# Altium integrated library Capacitor - Aluminium TH.IntLib: 4591 symbols (part 62 of 68)
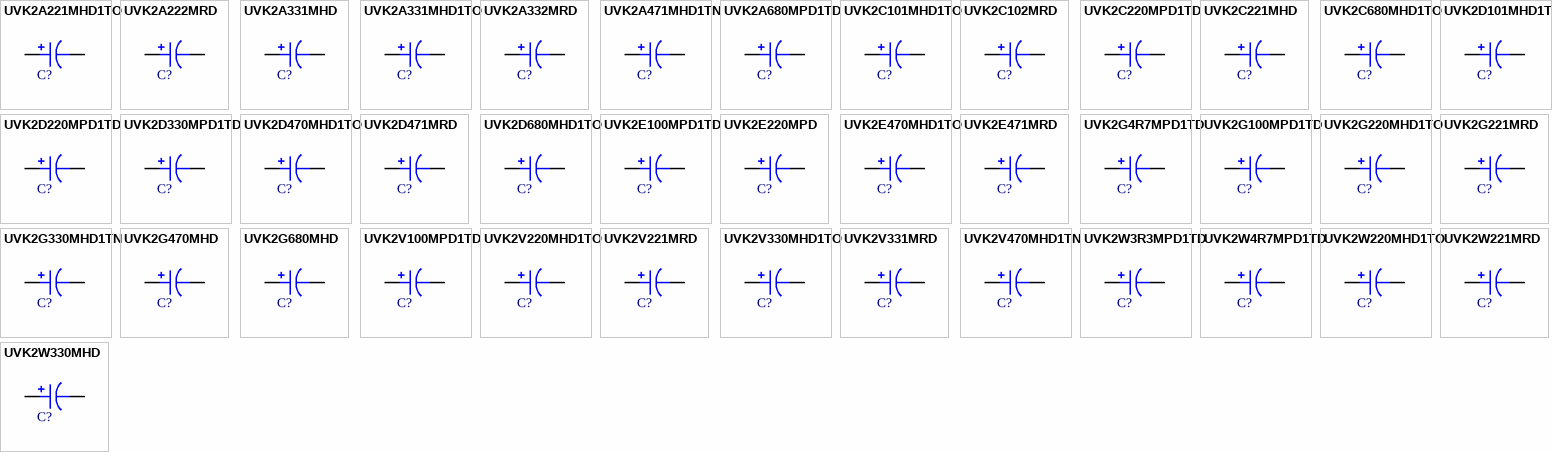
[diagram p175: symbols UVK2A221MHD1TO to UVK2W330MHD]

## UVK2C221MHD
designator C?, comment 220uF  (value not drawn)
CAP ALUM 220UF 20% 160V RADIAL; Part Number: UVK2C221MHD; Manufacturer: Nichicon; TemperatureRange: -40C ~ 85C; Type: Polar; Ripple Current: 580mA; Value: 220uF; PartId: 27126; Supplier 1: Digi-Key; Supplier Part Number 1: 493-12422-ND; ComponentLink1Description: Datasheet; ComponentLink1URL: http://nichicon-us.com/english/products/pdfs/e-uvk.pdf; ComponentLink2Description: Digi-Key Listing; ComponentLink2URL: https://www.digikey.com/product-detail/en/nichicon/UVK2C221MHD/493-12422-ND/2539468; Tolerance: 20%; Voltage: 160V; Price: 1.76; Device Package: Radial, Can, 16mm
footprint CAP AL TH D16 L7.5 H33.5
pins: 1, 2

## UVK2C680MHD1TO
designator C?, comment 68uF  (value not drawn)
CAP ALUM 68UF 20% 160V RADIAL; Part Number: UVK2C680MHD1TO; Manufacturer: Nichicon; TemperatureRange: -40C ~ 85C; Type: Polar; Ripple Current: 350mA; Value: 68uF; PartId: 23259; Supplier 1: Digi-Key; Supplier Part Number 1: 493-12622-1-ND; ComponentLink1Description: Datasheet; ComponentLink1URL: http://nichicon-us.com/english/products/pdfs/e-uvk.pdf; ComponentLink2Description: Digi-Key Listing; ComponentLink2URL: https://www.digikey.com/product-detail/en/nichicon/UVK2C680MHD1TO/493-12622-1-ND/4328703; Tolerance: 20%; Voltage: 160V; Price: 0.72; Device Package: Radial, Can, 12.5mm
footprint CAP AL TH D12.5 L5 H22
pins: 1, 2

## UVK2D101MHD1TN
designator C?, comment 100uF  (value not drawn)
CAP ALUM 100UF 20% 200V RADIAL; Part Number: UVK2D101MHD1TN; Manufacturer: Nichicon; TemperatureRange: -40C ~ 85C; Type: Polar; Ripple Current: 450mA; Value: 100uF; PartId: 26775; Supplier 1: Digi-Key; Supplier Part Number 1: 493-7457-2-ND; ComponentLink1Description: Datasheet; ComponentLink1URL: http://nichicon-us.com/english/products/pdfs/e-uvk.pdf; ComponentLink2Description: Digi-Key Listing; ComponentLink2URL: https://www.digikey.com/product-detail/en/nichicon/UVK2D101MHD1TN/493-7457-2-ND/3768856; Tolerance: 20%; Voltage: 200V; Price: 0.6236; Device Package: Radial, Can, 16mm
footprint CAP AL TH D16 L7.5 H27
pins: 1, 2

## UVK2D220MPD1TD
designator C?, comment 22uF  (value not drawn)
CAP ALUM 22UF 20% 200V RADIAL; Part Number: UVK2D220MPD1TD; Manufacturer: Nichicon; TemperatureRange: -40C ~ 85C; Type: Polar; Ripple Current: 150mA; Value: 22uF; PartId: 25036; Supplier 1: Digi-Key; Supplier Part Number 1: 493-12626-3-ND; ComponentLink1Description: Datasheet; ComponentLink1URL: http://nichicon-us.com/english/products/pdfs/e-uvk.pdf; ComponentLink2Description: Digi-Key Listing; ComponentLink2URL: https://www.digikey.com/product-detail/en/nichicon/UVK2D220MPD1TD/493-12626-3-ND/4328827; Tolerance: 20%; Voltage: 200V; Price: 0.184; Device Package: Radial, Can, 10mm
footprint CAP AL TH D10 L5 H17.5
pins: 1, 2

## UVK2D330MPD1TD
designator C?, comment 33uF  (value not drawn)
CAP ALUM 33UF 20% 200V RADIAL; Part Number: UVK2D330MPD1TD; Manufacturer: Nichicon; TemperatureRange: -40C ~ 85C; Type: Polar; Ripple Current: 200mA; Value: 33uF; PartId: 25771; Supplier 1: Digi-Key; Supplier Part Number 1: 493-7458-2-ND; ComponentLink1Description: Datasheet; ComponentLink1URL: http://nichicon-us.com/english/products/pdfs/e-uvk.pdf; ComponentLink2Description: Digi-Key Listing; ComponentLink2URL: https://www.digikey.com/product-detail/en/nichicon/UVK2D330MPD1TD/493-7458-2-ND/3768858; Tolerance: 20%; Voltage: 200V; Price: 0.2296; Device Package: Radial, Can, 10mm
footprint CAP AL TH D10 L5 H22
pins: 1, 2

## UVK2D470MHD1TO
designator C?, comment 47uF  (value not drawn)
CAP ALUM 47UF 20% 200V RADIAL; Part Number: UVK2D470MHD1TO; Manufacturer: Nichicon; TemperatureRange: -40C ~ 85C; Type: Polar; Ripple Current: 270mA; Value: 47uF; PartId: 23263; Supplier 1: Digi-Key; Supplier Part Number 1: 493-12629-1-ND; ComponentLink1Description: Datasheet; ComponentLink1URL: http://nichicon-us.com/english/products/pdfs/e-uvk.pdf; ComponentLink2Description: Digi-Key Listing; ComponentLink2URL: https://www.digikey.com/product-detail/en/nichicon/UVK2D470MHD1TO/493-12629-1-ND/4328710; Tolerance: 20%; Voltage: 200V; Price: 0.74; Device Package: Radial, Can, 12.5mm
footprint CAP AL TH D12.5 L5 H22
pins: 1, 2

## UVK2D471MRD
designator C?, comment 470uF  (value not drawn)
CAP ALUM 470UF 20% 200V RADIAL; Part Number: UVK2D471MRD; Manufacturer: Nichicon; TemperatureRange: -40C ~ 85C; Type: Polar; Ripple Current: 1.3A; Value: 470uF; PartId: 27578; Supplier 1: Digi-Key; Supplier Part Number 1: 493-12425-ND; ComponentLink1Description: Datasheet; ComponentLink1URL: http://nichicon-us.com/english/products/pdfs/e-uvk.pdf; ComponentLink2Description: Digi-Key Listing; ComponentLink2URL: https://www.digikey.com/product-detail/en/nichicon/UVK2D471MRD/493-12425-ND/2539484; Tolerance: 20%; Voltage: 200V; Price: 4.13; Device Package: Radial, Can, 22mm
footprint CAP AL TH D22 L10 H43
pins: 1, 2

## UVK2D680MHD1TO
designator C?, comment 68uF  (value not drawn)
CAP ALUM 68UF 20% 200V RADIAL; Part Number: UVK2D680MHD1TO; Manufacturer: Nichicon; TemperatureRange: -40C ~ 85C; Type: Polar; Ripple Current: 350mA; Value: 68uF; PartId: 24095; Supplier 1: Digi-Key; Supplier Part Number 1: 493-12631-1-ND; ComponentLink1Description: Datasheet; ComponentLink1URL: http://nichicon-us.com/english/products/pdfs/e-uvk.pdf; ComponentLink2Description: Digi-Key Listing; ComponentLink2URL: https://www.digikey.com/product-detail/en/nichicon/UVK2D680MHD1TO/493-12631-1-ND/4328712; Tolerance: 20%; Voltage: 200V; Price: 1.28; Device Package: Radial, Can, 12.5mm
footprint CAP AL TH D12.5 L5 H27
pins: 1, 2

## UVK2E100MPD1TD
designator C?, comment 10uF  (value not drawn)
CAP ALUM 10UF 20% 250V RADIAL; Part Number: UVK2E100MPD1TD; Manufacturer: Nichicon; TemperatureRange: -40C ~ 85C; Type: Polar; Ripple Current: 100mA; Value: 10uF; PartId: 24586; Supplier 1: Digi-Key; Supplier Part Number 1: 493-12635-3-ND; ComponentLink1Description: Datasheet; ComponentLink1URL: http://nichicon-us.com/english/products/pdfs/e-uvk.pdf; ComponentLink2Description: Digi-Key Listing; ComponentLink2URL: https://www.digikey.com/product-detail/en/nichicon/UVK2E100MPD1TD/493-12635-3-ND/4328836; Tolerance: 20%; Voltage: 250V; Price: 0.169; Device Package: Radial, Can, 10mm
footprint CAP AL TH D10 L5 H14.5
pins: 1, 2

## UVK2E220MPD
designator C?, comment 22uF  (value not drawn)
CAP ALUM 22UF 20% 250V RADIAL; Part Number: UVK2E220MPD; Manufacturer: Nichicon; TemperatureRange: -40C ~ 85C; Type: Polar; Ripple Current: 150mA; Value: 22uF; PartId: 25883; Supplier 1: Digi-Key; Supplier Part Number 1: 493-6069-ND; ComponentLink1Description: Datasheet; ComponentLink1URL: http://nichicon-us.com/english/products/pdfs/e-uvk.pdf; ComponentLink2Description: Digi-Key Listing; ComponentLink2URL: https://www.digikey.com/product-detail/en/nichicon/UVK2E220MPD/493-6069-ND/2539492; Tolerance: 20%; Voltage: 250V; Price: 0.64; Device Package: Radial, Can, 10mm
footprint CAP AL TH D10 L5 H22
pins: 1, 2

## UVK2E470MHD1TO
designator C?, comment 47uF  (value not drawn)
CAP ALUM 47UF 20% 250V RADIAL; Part Number: UVK2E470MHD1TO; Manufacturer: Nichicon; TemperatureRange: -40C ~ 85C; Type: Polar; Ripple Current: 270mA; Value: 47uF; PartId: 23386; Supplier 1: Digi-Key; Supplier Part Number 1: 493-12640-1-ND; ComponentLink1Description: Datasheet; ComponentLink1URL: http://nichicon-us.com/english/products/pdfs/e-uvk.pdf; ComponentLink2Description: Digi-Key Listing; ComponentLink2URL: https://www.digikey.com/product-detail/en/nichicon/UVK2E470MHD1TO/493-12640-1-ND/4328721; Tolerance: 20%; Voltage: 250V; Price: 0.93; Device Package: Radial, Can, 12.5mm
footprint CAP AL TH D12.5 L5 H22
pins: 1, 2

## UVK2E471MRD
designator C?, comment 470uF  (value not drawn)
CAP ALUM 470UF 20% 250V RADIAL; Part Number: UVK2E471MRD; Manufacturer: Nichicon; TemperatureRange: -40C ~ 85C; Type: Polar; Ripple Current: 1.4A; Value: 470uF; PartId: 27641; Supplier 1: Digi-Key; Supplier Part Number 1: 493-12428-ND; ComponentLink1Description: Datasheet; ComponentLink1URL: http://nichicon-us.com/english/products/pdfs/e-uvk.pdf; ComponentLink2Description: Digi-Key Listing; ComponentLink2URL: https://www.digikey.com/product-detail/en/nichicon/UVK2E471MRD/493-12428-ND/2539498; Tolerance: 20%; Voltage: 250V; Price: 4.11; Device Package: Radial, Can, 22mm
footprint CAP AL TH D22 L10 H53
pins: 1, 2

## UVK2G4R7MPD1TD
designator C?, comment 4.7uF  (value not drawn)
CAP ALUM 4.7UF 20% 400V RADIAL; Part Number: UVK2G4R7MPD1TD; Manufacturer: Nichicon; TemperatureRange: -40C ~ 85C; Type: Polar; Ripple Current: 60mA; Value: 4.7uF; PartId: 24587; Supplier 1: Digi-Key; Supplier Part Number 1: 493-12647-3-ND; ComponentLink1Description: Datasheet; ComponentLink1URL: http://nichicon-us.com/english/products/pdfs/e-uvk.pdf; ComponentLink2Description: Digi-Key Listing; ComponentLink2URL: https://www.digikey.com/product-detail/en/nichicon/UVK2G4R7MPD1TD/493-12647-3-ND/4328848; Tolerance: 20%; Voltage: 400V; Price: 0.169; Device Package: Radial, Can, 10mm
footprint CAP AL TH D10 L5 H14.5
pins: 1, 2

## UVK2G100MPD1TD
designator C?, comment 10uF  (value not drawn)
CAP ALUM 10UF 20% 400V RADIAL; Part Number: UVK2G100MPD1TD; Manufacturer: Nichicon; TemperatureRange: -40C ~ 85C; Type: Polar; Ripple Current: 90mA; Value: 10uF; PartId: 25054; Supplier 1: Digi-Key; Supplier Part Number 1: 493-7459-2-ND; ComponentLink1Description: Datasheet; ComponentLink1URL: http://nichicon-us.com/english/products/pdfs/e-uvk.pdf; ComponentLink2Description: Digi-Key Listing; ComponentLink2URL: https://www.digikey.com/product-detail/en/nichicon/UVK2G100MPD1TD/493-7459-2-ND/3768860; Tolerance: 20%; Voltage: 400V; Price: 0.2148; Device Package: Radial, Can, 10mm
footprint CAP AL TH D10 L5 H17.5
pins: 1, 2

## UVK2G220MHD1TO
designator C?, comment 22uF  (value not drawn)
CAP ALUM 22UF 20% 400V RADIAL; Part Number: UVK2G220MHD1TO; Manufacturer: Nichicon; TemperatureRange: -40C ~ 85C; Type: Polar; Ripple Current: 200mA; Value: 22uF; PartId: 24145; Supplier 1: Digi-Key; Supplier Part Number 1: 493-7460-1-ND; ComponentLink1Description: Datasheet; ComponentLink1URL: http://nichicon-us.com/english/products/pdfs/e-uvk.pdf; ComponentLink2Description: Digi-Key Listing; ComponentLink2URL: https://www.digikey.com/product-detail/en/nichicon/UVK2G220MHD1TO/493-7460-1-ND/3768861; Tolerance: 20%; Voltage: 400V; Price: 1.49; Device Package: Radial, Can, 12.5mm
footprint CAP AL TH D12.5 L5 H27
pins: 1, 2

## UVK2G221MRD
designator C?, comment 220uF  (value not drawn)
CAP ALUM 220UF 20% 400V RADIAL; Part Number: UVK2G221MRD; Manufacturer: Nichicon; TemperatureRange: -40C ~ 85C; Type: Polar; Ripple Current: 650mA; Value: 220uF; PartId: 27662; Supplier 1: Digi-Key; Supplier Part Number 1: 493-12430-ND; ComponentLink1Description: Datasheet; ComponentLink1URL: http://nichicon-us.com/english/products/pdfs/e-uvk.pdf; ComponentLink2Description: Digi-Key Listing; ComponentLink2URL: https://www.digikey.com/product-detail/en/nichicon/UVK2G221MRD/493-12430-ND/2539505; Tolerance: 20%; Voltage: 400V; Price: 5.01; Device Package: Radial, Can, 22mm
footprint CAP AL TH D22 L10 H53
pins: 1, 2

## UVK2G330MHD1TN
designator C?, comment 33uF  (value not drawn)
CAP ALUM 33UF 20% 400V RADIAL; Part Number: UVK2G330MHD1TN; Manufacturer: Nichicon; TemperatureRange: -40C ~ 85C; Type: Polar; Ripple Current: 240mA; Value: 33uF; PartId: 26780; Supplier 1: Digi-Key; Supplier Part Number 1: 493-7461-2-ND; ComponentLink1Description: Datasheet; ComponentLink1URL: http://nichicon-us.com/english/products/pdfs/e-uvk.pdf; ComponentLink2Description: Digi-Key Listing; ComponentLink2URL: https://www.digikey.com/product-detail/en/nichicon/UVK2G330MHD1TN/493-7461-2-ND/3768864; Tolerance: 20%; Voltage: 400V; Price: 0.6474; Device Package: Radial, Can, 16mm
footprint CAP AL TH D16 L7.5 H27
pins: 1, 2

## UVK2G470MHD
designator C?, comment 47uF  (value not drawn)
CAP ALUM 47UF 20% 400V RADIAL; Part Number: UVK2G470MHD; Manufacturer: Nichicon; TemperatureRange: -40C ~ 85C; Type: Polar; Ripple Current: 280mA; Value: 47uF; PartId: 26629; Supplier 1: Digi-Key; Supplier Part Number 1: UVK2G470MHD-ND; ComponentLink1Description: Datasheet; ComponentLink1URL: http://nichicon-us.com/english/products/pdfs/e-uvk.pdf; ComponentLink2Description: Digi-Key Listing; ComponentLink2URL: https://www.digikey.com/product-detail/en/nichicon/UVK2G470MHD/UVK2G470MHD-ND/2428049; Tolerance: 20%; Voltage: 400V; Price: 1.44; Device Package: Radial, Can, 16mm
footprint CAP AL TH D16 L7.5 H26.5
pins: 1, 2

## UVK2G680MHD
designator C?, comment 68uF  (value not drawn)
CAP ALUM 68UF 20% 400V RADIAL; Part Number: UVK2G680MHD; Manufacturer: Nichicon; TemperatureRange: -40C ~ 85C; Type: Polar; Ripple Current: 340mA; Value: 68uF; PartId: 27210; Supplier 1: Digi-Key; Supplier Part Number 1: 493-12431-ND; ComponentLink1Description: Datasheet; ComponentLink1URL: http://nichicon-us.com/english/products/pdfs/e-uvk.pdf; ComponentLink2Description: Digi-Key Listing; ComponentLink2URL: https://www.digikey.com/product-detail/en/nichicon/UVK2G680MHD/493-12431-ND/2539510; Tolerance: 20%; Voltage: 400V; Price: 2.21; Device Package: Radial, Can, 16mm
footprint CAP AL TH D16 L7.5 H33.5
pins: 1, 2

## UVK2V100MPD1TD
designator C?, comment 10uF  (value not drawn)
CAP ALUM 10UF 20% 350V RADIAL; Part Number: UVK2V100MPD1TD; Manufacturer: Nichicon; TemperatureRange: -40C ~ 85C; Type: Polar; Ripple Current: 90mA; Value: 10uF; PartId: 24627; Supplier 1: Digi-Key; Supplier Part Number 1: 493-12649-3-ND; ComponentLink1Description: Datasheet; ComponentLink1URL: http://nichicon-us.com/english/products/pdfs/e-uvk.pdf; ComponentLink2Description: Digi-Key Listing; ComponentLink2URL: https://www.digikey.com/product-detail/en/nichicon/UVK2V100MPD1TD/493-12649-3-ND/4328850; Tolerance: 20%; Voltage: 350V; Price: 0.2148; Device Package: Radial, Can, 10mm
footprint CAP AL TH D10 L5 H14.5
pins: 1, 2

## UVK2V220MHD1TO
designator C?, comment 22uF  (value not drawn)
CAP ALUM 22UF 20% 350V RADIAL; Part Number: UVK2V220MHD1TO; Manufacturer: Nichicon; TemperatureRange: -40C ~ 85C; Type: Polar; Ripple Current: 150mA; Value: 22uF; PartId: 23370; Supplier 1: Digi-Key; Supplier Part Number 1: 493-12650-1-ND; ComponentLink1Description: Datasheet; ComponentLink1URL: http://nichicon-us.com/english/products/pdfs/e-uvk.pdf; ComponentLink2Description: Digi-Key Listing; ComponentLink2URL: https://www.digikey.com/product-detail/en/nichicon/UVK2V220MHD1TO/493-12650-1-ND/4328731; Tolerance: 20%; Voltage: 350V; Price: 0.89; Device Package: Radial, Can, 12.5mm
footprint CAP AL TH D12.5 L5 H22
pins: 1, 2

## UVK2V221MRD
designator C?, comment 220uF  (value not drawn)
CAP ALUM 220UF 20% 350V RADIAL; Part Number: UVK2V221MRD; Manufacturer: Nichicon; TemperatureRange: -40C ~ 85C; Type: Polar; Ripple Current: 760mA; Value: 220uF; PartId: 27653; Supplier 1: Digi-Key; Supplier Part Number 1: 493-12433-ND; ComponentLink1Description: Datasheet; ComponentLink1URL: http://nichicon-us.com/english/products/pdfs/e-uvk.pdf; ComponentLink2Description: Digi-Key Listing; ComponentLink2URL: https://www.digikey.com/product-detail/en/nichicon/UVK2V221MRD/493-12433-ND/2539515; Tolerance: 20%; Voltage: 350V; Price: 4.29; Device Package: Radial, Can, 22mm
footprint CAP AL TH D22 L10 H53
pins: 1, 2

## UVK2V330MHD1TO
designator C?, comment 33uF  (value not drawn)
CAP ALUM 33UF 20% 350V RADIAL; Part Number: UVK2V330MHD1TO; Manufacturer: Nichicon; TemperatureRange: -40C ~ 85C; Type: Polar; Ripple Current: 240mA; Value: 33uF; PartId: 24146; Supplier 1: Digi-Key; Supplier Part Number 1: 493-12652-1-ND; ComponentLink1Description: Datasheet; ComponentLink1URL: http://nichicon-us.com/english/products/pdfs/e-uvk.pdf; ComponentLink2Description: Digi-Key Listing; ComponentLink2URL: https://www.digikey.com/product-detail/en/nichicon/UVK2V330MHD1TO/493-12652-1-ND/4328733; Tolerance: 20%; Voltage: 350V; Price: 1.49; Device Package: Radial, Can, 12.5mm
footprint CAP AL TH D12.5 L5 H27
pins: 1, 2

## UVK2V331MRD
designator C?, comment 330uF  (value not drawn)
CAP ALUM 330UF 20% 350V RADIAL; Part Number: UVK2V331MRD; Manufacturer: Nichicon; TemperatureRange: -40C ~ 85C; Type: Polar; Ripple Current: 1A; Value: 330uF; PartId: 27537; Supplier 1: Digi-Key; Supplier Part Number 1: 493-12434-ND; ComponentLink1Description: Datasheet; ComponentLink1URL: http://nichicon-us.com/english/products/pdfs/e-uvk.pdf; ComponentLink2Description: Digi-Key Listing; ComponentLink2URL: https://www.digikey.com/product-detail/en/nichicon/UVK2V331MRD/493-12434-ND/2539518; Tolerance: 20%; Voltage: 350V; Price: 5.01; Device Package: Radial, Can, 25mm
footprint CAP AL TH D25 L12.5 H52
pins: 1, 2

## UVK2V470MHD1TN
designator C?, comment 47uF  (value not drawn)
CAP ALUM 47UF 20% 350V RADIAL; Part Number: UVK2V470MHD1TN; Manufacturer: Nichicon; TemperatureRange: -40C ~ 85C; Type: Polar; Ripple Current: 300mA; Value: 47uF; PartId: 26792; Supplier 1: Digi-Key; Supplier Part Number 1: 493-7463-3-ND; ComponentLink1Description: Datasheet; ComponentLink1URL: http://nichicon-us.com/english/products/pdfs/e-uvk.pdf; ComponentLink2Description: Digi-Key Listing; ComponentLink2URL: https://www.digikey.com/product-detail/en/nichicon/UVK2V470MHD1TN/493-7463-3-ND/3768868; Tolerance: 20%; Voltage: 350V; Price: 0.6758; Device Package: Radial, Can, 16mm
footprint CAP AL TH D16 L7.5 H27
pins: 1, 2

## UVK2W3R3MPD1TD
designator C?, comment 3.3uF  (value not drawn)
CAP ALUM 3.3UF 20% 450V RADIAL; Part Number: UVK2W3R3MPD1TD; Manufacturer: Nichicon; TemperatureRange: -25C ~ 85C; Type: Polar; Ripple Current: 40mA; Value: 3.3uF; PartId: 24585; Supplier 1: Digi-Key; Supplier Part Number 1: 493-12659-3-ND; ComponentLink1Description: Datasheet; ComponentLink1URL: http://nichicon-us.com/english/products/pdfs/e-uvk.pdf; ComponentLink2Description: Digi-Key Listing; ComponentLink2URL: https://www.digikey.com/product-detail/en/nichicon/UVK2W3R3MPD1TD/493-12659-3-ND/4328860; Tolerance: 20%; Voltage: 450V; Price: 0.169; Device Package: Radial, Can, 10mm
footprint CAP AL TH D10 L5 H14.5
pins: 1, 2

## UVK2W4R7MPD1TD
designator C?, comment 4.7uF  (value not drawn)
CAP ALUM 4.7UF 20% 450V RADIAL; Part Number: UVK2W4R7MPD1TD; Manufacturer: Nichicon; TemperatureRange: -25C ~ 85C; Type: Polar; Ripple Current: 46mA; Value: 4.7uF; PartId: 24624; Supplier 1: Digi-Key; Supplier Part Number 1: 493-12660-3-ND; ComponentLink1Description: Datasheet; ComponentLink1URL: http://nichicon-us.com/english/products/pdfs/e-uvk.pdf; ComponentLink2Description: Digi-Key Listing; ComponentLink2URL: https://www.digikey.com/product-detail/en/nichicon/UVK2W4R7MPD1TD/493-12660-3-ND/4328861; Tolerance: 20%; Voltage: 450V; Price: 0.2096; Device Package: Radial, Can, 10mm
footprint CAP AL TH D10 L5 H14.5
pins: 1, 2

## UVK2W220MHD1TO
designator C?, comment 22uF  (value not drawn)
CAP ALUM 22UF 20% 450V RADIAL; Part Number: UVK2W220MHD1TO; Manufacturer: Nichicon; TemperatureRange: -25C ~ 85C; Type: Polar; Ripple Current: 140mA; Value: 22uF; PartId: 23851; Supplier 1: Digi-Key; Supplier Part Number 1: 493-12656-3-ND; ComponentLink1Description: Datasheet; ComponentLink1URL: http://nichicon-us.com/english/products/pdfs/e-uvk.pdf; ComponentLink2Description: Digi-Key Listing; ComponentLink2URL: https://www.digikey.com/product-detail/en/nichicon/UVK2W220MHD1TO/493-12656-3-ND/4328857; Tolerance: 20%; Voltage: 450V; Price: 0.6407; Device Package: Radial, Can, 12.5mm
footprint CAP AL TH D12.5 L5 H27
pins: 1, 2

## UVK2W221MRD
designator C?, comment 220uF  (value not drawn)
CAP ALUM 220UF 20% 450V RADIAL; Part Number: UVK2W221MRD; Manufacturer: Nichicon; TemperatureRange: -25C ~ 85C; Type: Polar; Ripple Current: 350mA; Value: 220uF; PartId: 27544; Supplier 1: Digi-Key; Supplier Part Number 1: 493-12436-ND; ComponentLink1Description: Datasheet; ComponentLink1URL: http://nichicon-us.com/english/products/pdfs/e-uvk.pdf; ComponentLink2Description: Digi-Key Listing; ComponentLink2URL: https://www.digikey.com/product-detail/en/nichicon/UVK2W221MRD/493-12436-ND/2539526; Tolerance: 20%; Voltage: 450V; Price: 5.01; Device Package: Radial, Can, 25mm
footprint CAP AL TH D25 L12.5 H52
pins: 1, 2

## UVK2W330MHD
designator C?, comment 33uF  (value not drawn)
CAP ALUM 33UF 20% 450V RADIAL; Part Number: UVK2W330MHD; Manufacturer: Nichicon; TemperatureRange: -25C ~ 85C; Type: Polar; Ripple Current: 180mA; Value: 33uF; PartId: 26891; Supplier 1: Digi-Key; Supplier Part Number 1: 493-6070-ND; ComponentLink1Description: Datasheet; ComponentLink1URL: http://nichicon-us.com/english/products/pdfs/e-uvk.pdf; ComponentLink2Description: Digi-Key Listing; ComponentLink2URL: https://www.digikey.com/product-detail/en/nichicon/UVK2W330MHD/493-6070-ND/2539528; Tolerance: 20%; Voltage: 450V; Price: 1.39; Device Package: Radial, Can, 16mm
footprint CAP AL TH D16 L7.5 H27
pins: 1, 2

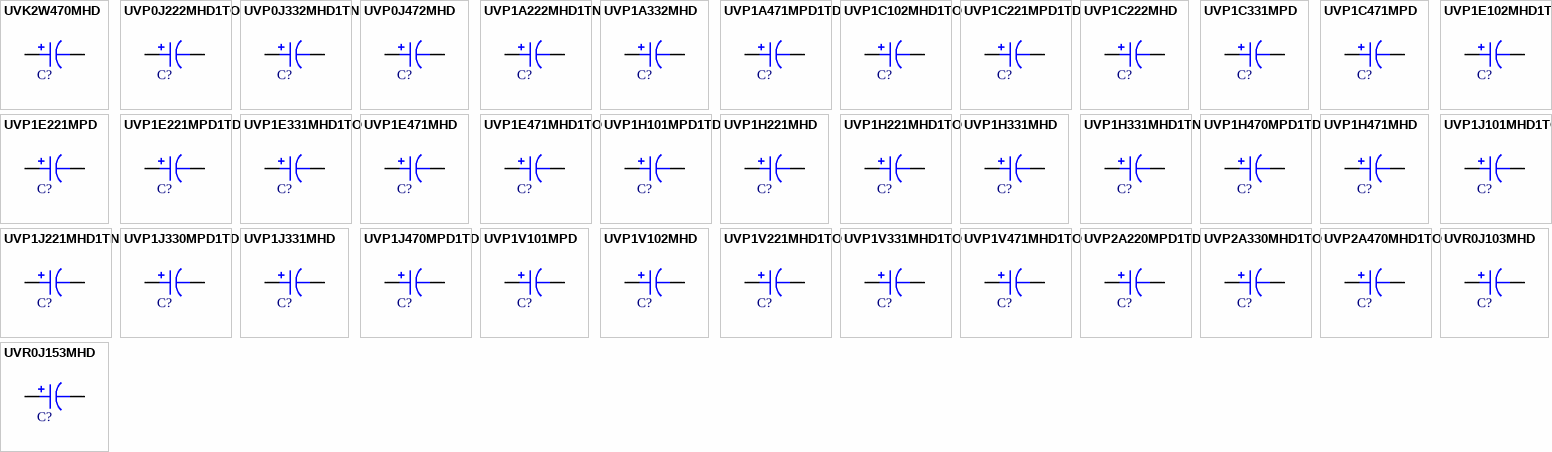
[diagram p104: symbols UVK2W470MHD to UVR0J153MHD]

## UVK2W470MHD
designator C?, comment 47uF  (value not drawn)
CAP ALUM 47UF 20% 450V RADIAL; Part Number: UVK2W470MHD; Manufacturer: Nichicon; TemperatureRange: -25C ~ 85C; Type: Polar; Ripple Current: 220mA; Value: 47uF; PartId: 27254; Supplier 1: Digi-Key; Supplier Part Number 1: 493-12437-ND; ComponentLink1Description: Datasheet; ComponentLink1URL: http://nichicon-us.com/english/products/pdfs/e-uvk.pdf; ComponentLink2Description: Digi-Key Listing; ComponentLink2URL: https://www.digikey.com/product-detail/en/nichicon/UVK2W470MHD/493-12437-ND/2539530; Tolerance: 20%; Voltage: 450V; Price: 2.69; Device Package: Radial, Can, 16mm
footprint CAP AL TH D16 L7.5 H33.5
pins: 1, 2

## UVP0J222MHD1TO
designator C?, comment 2200uF  (value not drawn)
CAP ALUM 2200UF 20% 6.3V RADIAL; Part Number: UVP0J222MHD1TO; Manufacturer: Nichicon; TemperatureRange: -40C ~ 85C; Type: Bi-Polar; Ripple Current: 1.16A; Value: 2200uF; PartId: 23929; Supplier 1: Digi-Key; Supplier Part Number 1: 493-12664-1-ND; ComponentLink1Description: Datasheet; ComponentLink1URL: http://nichicon-us.com/english/products/pdfs/e-uvp.pdf; ComponentLink2Description: Digi-Key Listing; ComponentLink2URL: https://www.digikey.com/product-detail/en/nichicon/UVP0J222MHD1TO/493-12664-1-ND/4328281; Tolerance: 20%; Voltage: 6.3V; Price: 0.96; Device Package: Radial, Can, 12.5mm
footprint CAP AL TH D12.5 L5 H27
pins: 1, 2

## UVP0J332MHD1TN
designator C?, comment 3300uF  (value not drawn)
CAP ALUM 3300UF 20% 6.3V RADIAL; Part Number: UVP0J332MHD1TN; Manufacturer: Nichicon; TemperatureRange: -40C ~ 85C; Type: Bi-Polar; Ripple Current: 1.57A; Value: 3300uF; PartId: 26764; Supplier 1: Digi-Key; Supplier Part Number 1: 493-12667-3-ND; ComponentLink1Description: Datasheet; ComponentLink1URL: http://nichicon-us.com/english/products/pdfs/e-uvp.pdf; ComponentLink2Description: Digi-Key Listing; ComponentLink2URL: https://www.digikey.com/product-detail/en/nichicon/UVP0J332MHD1TN/493-12667-3-ND/4328868; Tolerance: 20%; Voltage: 6.3V; Price: 0.5914; Device Package: Radial, Can, 16mm
footprint CAP AL TH D16 L7.5 H27
pins: 1, 2

## UVP0J472MHD
designator C?, comment 4700uF  (value not drawn)
CAP ALUM 4700UF 20% 6.3V RADIAL; Part Number: UVP0J472MHD; Manufacturer: Nichicon; TemperatureRange: -40C ~ 85C; Type: Bi-Polar; Ripple Current: 2.02A; Value: 4700uF; PartId: 27014; Supplier 1: Digi-Key; Supplier Part Number 1: 493-12439-ND; ComponentLink1Description: Datasheet; ComponentLink1URL: http://nichicon-us.com/english/products/pdfs/e-uvp.pdf; ComponentLink2Description: Digi-Key Listing; ComponentLink2URL: https://www.digikey.com/product-detail/en/nichicon/UVP0J472MHD/493-12439-ND/2539542; Tolerance: 20%; Voltage: 6.3V; Price: 1.42; Device Package: Radial, Can, 16mm
footprint CAP AL TH D16 L7.5 H33.5
pins: 1, 2

## UVP1A222MHD1TN
designator C?, comment 2200uF  (value not drawn)
CAP ALUM 2200UF 20% 10V RADIAL; Part Number: UVP1A222MHD1TN; Manufacturer: Nichicon; TemperatureRange: -40C ~ 85C; Type: Bi-Polar; Ripple Current: 1.28A; Value: 2200uF; PartId: 26759; Supplier 1: Digi-Key; Supplier Part Number 1: 493-12674-3-ND; ComponentLink1Description: Datasheet; ComponentLink1URL: http://nichicon-us.com/english/products/pdfs/e-uvp.pdf; ComponentLink2Description: Digi-Key Listing; ComponentLink2URL: https://www.digikey.com/product-detail/en/nichicon/UVP1A222MHD1TN/493-12674-3-ND/4328875; Tolerance: 20%; Voltage: 10V; Price: 0.58; Device Package: Radial, Can, 16mm
footprint CAP AL TH D16 L7.5 H27
pins: 1, 2

## UVP1A332MHD
designator C?, comment 3300uF  (value not drawn)
CAP ALUM 3300UF 20% 10V RADIAL; Part Number: UVP1A332MHD; Manufacturer: Nichicon; TemperatureRange: -40C ~ 85C; Type: Bi-Polar; Ripple Current: 1.69A; Value: 3300uF; PartId: 27019; Supplier 1: Digi-Key; Supplier Part Number 1: 493-12441-ND; ComponentLink1Description: Datasheet; ComponentLink1URL: http://nichicon-us.com/english/products/pdfs/e-uvp.pdf; ComponentLink2Description: Digi-Key Listing; ComponentLink2URL: https://www.digikey.com/product-detail/en/nichicon/UVP1A332MHD/493-12441-ND/2539551; Tolerance: 20%; Voltage: 10V; Price: 1.43; Device Package: Radial, Can, 16mm
footprint CAP AL TH D16 L7.5 H33.5
pins: 1, 2

## UVP1A471MPD1TD
designator C?, comment 470uF  (value not drawn)
CAP ALUM 470UF 20% 10V RADIAL; Part Number: UVP1A471MPD1TD; Manufacturer: Nichicon; TemperatureRange: -40C ~ 85C; Type: Bi-Polar; Ripple Current: 410mA; Value: 470uF; PartId: 25047; Supplier 1: Digi-Key; Supplier Part Number 1: 493-12678-3-ND; ComponentLink1Description: Datasheet; ComponentLink1URL: http://nichicon-us.com/english/products/pdfs/e-uvp.pdf; ComponentLink2Description: Digi-Key Listing; ComponentLink2URL: https://www.digikey.com/product-detail/en/nichicon/UVP1A471MPD1TD/493-12678-3-ND/4328879; Tolerance: 20%; Voltage: 10V; Price: 0.1976; Device Package: Radial, Can, 10mm
footprint CAP AL TH D10 L5 H17.5
pins: 1, 2

## UVP1C102MHD1TO
designator C?, comment 1000uF  (value not drawn)
CAP ALUM 1000UF 20% 16V RADIAL; Part Number: UVP1C102MHD1TO; Manufacturer: Nichicon; TemperatureRange: -40C ~ 85C; Type: Bi-Polar; Ripple Current: 855mA; Value: 1000uF; PartId: 23945; Supplier 1: Digi-Key; Supplier Part Number 1: 493-12681-1-ND; ComponentLink1Description: Datasheet; ComponentLink1URL: http://nichicon-us.com/english/products/pdfs/e-uvp.pdf; ComponentLink2Description: Digi-Key Listing; ComponentLink2URL: https://www.digikey.com/product-detail/en/nichicon/UVP1C102MHD1TO/493-12681-1-ND/4328298; Tolerance: 20%; Voltage: 16V; Price: 0.97; Device Package: Radial, Can, 12.5mm
footprint CAP AL TH D12.5 L5 H27
pins: 1, 2

## UVP1C221MPD1TD
designator C?, comment 220uF  (value not drawn)
CAP ALUM 220UF 20% 16V RADIAL; Part Number: UVP1C221MPD1TD; Manufacturer: Nichicon; TemperatureRange: -40C ~ 85C; Type: Bi-Polar; Ripple Current: 275mA; Value: 220uF; PartId: 24618; Supplier 1: Digi-Key; Supplier Part Number 1: 493-12683-3-ND; ComponentLink1Description: Datasheet; ComponentLink1URL: http://nichicon-us.com/english/products/pdfs/e-uvp.pdf; ComponentLink2Description: Digi-Key Listing; ComponentLink2URL: https://www.digikey.com/product-detail/en/nichicon/UVP1C221MPD1TD/493-12683-3-ND/4328884; Tolerance: 20%; Voltage: 16V; Price: 0.1976; Device Package: Radial, Can, 10mm
footprint CAP AL TH D10 L5 H14.5
pins: 1, 2

## UVP1C222MHD
designator C?, comment 2200uF  (value not drawn)
CAP ALUM 2200UF 20% 16V RADIAL; Part Number: UVP1C222MHD; Manufacturer: Nichicon; TemperatureRange: -40C ~ 85C; Type: Bi-Polar; Ripple Current: 1.51A; Value: 2200uF; PartId: 27031; Supplier 1: Digi-Key; Supplier Part Number 1: 493-12443-ND; ComponentLink1Description: Datasheet; ComponentLink1URL: http://nichicon-us.com/english/products/pdfs/e-uvp.pdf; ComponentLink2Description: Digi-Key Listing; ComponentLink2URL: https://www.digikey.com/product-detail/en/nichicon/UVP1C222MHD/493-12443-ND/2539558; Tolerance: 20%; Voltage: 16V; Price: 1.5; Device Package: Radial, Can, 16mm
footprint CAP AL TH D16 L7.5 H33.5
pins: 1, 2

## UVP1C331MPD
designator C?, comment 330uF  (value not drawn)
CAP ALUM 330UF 20% 16V RADIAL; Part Number: UVP1C331MPD; Manufacturer: Nichicon; TemperatureRange: -40C ~ 85C; Type: Bi-Polar; Ripple Current: 375mA; Value: 330uF; PartId: 25251; Supplier 1: Digi-Key; Supplier Part Number 1: 493-6079-ND; ComponentLink1Description: Datasheet; ComponentLink1URL: http://nichicon-us.com/english/products/pdfs/e-uvp.pdf; ComponentLink2Description: Digi-Key Listing; ComponentLink2URL: https://www.digikey.com/product-detail/en/nichicon/UVP1C331MPD/493-6079-ND/2539560; Tolerance: 20%; Voltage: 16V; Price: 0.57; Device Package: Radial, Can, 10mm
footprint CAP AL TH D10 L5 H17.5
pins: 1, 2

## UVP1C471MPD
designator C?, comment 470uF  (value not drawn)
CAP ALUM 470UF 20% 16V RADIAL; Part Number: UVP1C471MPD; Manufacturer: Nichicon; TemperatureRange: -40C ~ 85C; Type: Bi-Polar; Ripple Current: 485mA; Value: 470uF; PartId: 25896; Supplier 1: Digi-Key; Supplier Part Number 1: 493-6081-ND; ComponentLink1Description: Datasheet; ComponentLink1URL: http://nichicon-us.com/english/products/pdfs/e-uvp.pdf; ComponentLink2Description: Digi-Key Listing; ComponentLink2URL: https://www.digikey.com/product-detail/en/nichicon/UVP1C471MPD/493-6081-ND/2539563; Tolerance: 20%; Voltage: 16V; Price: 0.67; Device Package: Radial, Can, 10mm
footprint CAP AL TH D10 L5 H22
pins: 1, 2

## UVP1E102MHD1TN
designator C?, comment 1000uF  (value not drawn)
CAP ALUM 1000UF 20% 25V RADIAL; Part Number: UVP1E102MHD1TN; Manufacturer: Nichicon; TemperatureRange: -40C ~ 85C; Type: Bi-Polar; Ripple Current: 950mA; Value: 1000uF; PartId: 26760; Supplier 1: Digi-Key; Supplier Part Number 1: 493-12690-3-ND; ComponentLink1Description: Datasheet; ComponentLink1URL: http://nichicon-us.com/english/products/pdfs/e-uvp.pdf; ComponentLink2Description: Digi-Key Listing; ComponentLink2URL: https://www.digikey.com/product-detail/en/nichicon/UVP1E102MHD1TN/493-12690-3-ND/4328891; Tolerance: 20%; Voltage: 25V; Price: 0.5804; Device Package: Radial, Can, 16mm
footprint CAP AL TH D16 L7.5 H27
pins: 1, 2

## UVP1E221MPD
designator C?, comment 220uF  (value not drawn)
CAP ALUM 220UF 20% 25V RADIAL; Part Number: UVP1E221MPD; Manufacturer: Nichicon; TemperatureRange: -40C ~ 85C; Type: Bi-Polar; Ripple Current: 305mA; Value: 220uF; PartId: 25328; Supplier 1: Digi-Key; Supplier Part Number 1: 493-6082-ND; ComponentLink1Description: Datasheet; ComponentLink1URL: http://nichicon-us.com/english/products/pdfs/e-uvp.pdf; ComponentLink2Description: Digi-Key Listing; ComponentLink2URL: https://www.digikey.com/product-detail/en/nichicon/UVP1E221MPD/493-6082-ND/2539566; Tolerance: 20%; Voltage: 25V; Price: 0.67; Device Package: Radial, Can, 10mm
footprint CAP AL TH D10 L5 H17.5
pins: 1, 2

## UVP1E221MPD1TD
designator C?, comment 220uF  (value not drawn)
CAP ALUM 220UF 20% 25V RADIAL; Part Number: UVP1E221MPD1TD; Manufacturer: Nichicon; TemperatureRange: -40C ~ 85C; Type: Bi-Polar; Ripple Current: 305mA; Value: 220uF; PartId: 25075; Supplier 1: Digi-Key; Supplier Part Number 1: 493-12692-3-ND; ComponentLink1Description: Datasheet; ComponentLink1URL: http://nichicon-us.com/english/products/pdfs/e-uvp.pdf; ComponentLink2Description: Digi-Key Listing; ComponentLink2URL: https://www.digikey.com/product-detail/en/nichicon/UVP1E221MPD1TD/493-12692-3-ND/4328893; Tolerance: 20%; Voltage: 25V; Price: 0.232; Device Package: Radial, Can, 10mm
footprint CAP AL TH D10 L5 H17.5
pins: 1, 2

## UVP1E331MHD1TO
designator C?, comment 330uF  (value not drawn)
CAP ALUM 330UF 20% 25V RADIAL; Part Number: UVP1E331MHD1TO; Manufacturer: Nichicon; TemperatureRange: -40C ~ 85C; Type: Bi-Polar; Ripple Current: 450mA; Value: 330uF; PartId: 23165; Supplier 1: Digi-Key; Supplier Part Number 1: 493-12694-3-ND; ComponentLink1Description: Datasheet; ComponentLink1URL: http://nichicon-us.com/english/products/pdfs/e-uvp.pdf; ComponentLink2Description: Digi-Key Listing; ComponentLink2URL: https://www.digikey.com/product-detail/en/nichicon/UVP1E331MHD1TO/493-12694-3-ND/4328895; Tolerance: 20%; Voltage: 25V; Price: 0.3366; Device Package: Radial, Can, 12.5mm
footprint CAP AL TH D12.5 L5 H22
pins: 1, 2

## UVP1E471MHD
designator C?, comment 470uF  (value not drawn)
CAP ALUM 470UF 20% 25V RADIAL; Part Number: UVP1E471MHD; Manufacturer: Nichicon; TemperatureRange: -40C ~ 85C; Type: Bi-Polar; Ripple Current: 540mA; Value: 470uF; PartId: 23372; Supplier 1: Digi-Key; Supplier Part Number 1: 493-6085-ND; ComponentLink1Description: Datasheet; ComponentLink1URL: http://nichicon-us.com/english/products/pdfs/e-uvp.pdf; ComponentLink2Description: Digi-Key Listing; ComponentLink2URL: https://www.digikey.com/product-detail/en/nichicon/UVP1E471MHD/493-6085-ND/2539571; Tolerance: 20%; Voltage: 25V; Price: 0.9; Device Package: Radial, Can, 12.5mm
footprint CAP AL TH D12.5 L5 H22
pins: 1, 2

## UVP1E471MHD1TO
designator C?, comment 470uF  (value not drawn)
CAP ALUM 470UF 20% 25V RADIAL; Part Number: UVP1E471MHD1TO; Manufacturer: Nichicon; TemperatureRange: -40C ~ 85C; Type: Bi-Polar; Ripple Current: 540mA; Value: 470uF; PartId: 23437; Supplier 1: Digi-Key; Supplier Part Number 1: 493-12696-1-ND; ComponentLink1Description: Datasheet; ComponentLink1URL: http://nichicon-us.com/english/products/pdfs/e-uvp.pdf; ComponentLink2Description: Digi-Key Listing; ComponentLink2URL: https://www.digikey.com/product-detail/en/nichicon/UVP1E471MHD1TO/493-12696-1-ND/4328313; Tolerance: 20%; Voltage: 25V; Price: 1.01; Device Package: Radial, Can, 12.5mm
footprint CAP AL TH D12.5 L5 H22
pins: 1, 2

## UVP1H101MPD1TD
designator C?, comment 100uF  (value not drawn)
CAP ALUM 100UF 20% 50V RADIAL; Part Number: UVP1H101MPD1TD; Manufacturer: Nichicon; TemperatureRange: -40C ~ 85C; Type: Bi-Polar; Ripple Current: 265mA; Value: 100uF; PartId: 25792; Supplier 1: Digi-Key; Supplier Part Number 1: 493-12699-3-ND; ComponentLink1Description: Datasheet; ComponentLink1URL: http://nichicon-us.com/english/products/pdfs/e-uvp.pdf; ComponentLink2Description: Digi-Key Listing; ComponentLink2URL: https://www.digikey.com/product-detail/en/nichicon/UVP1H101MPD1TD/493-12699-3-ND/4328900; Tolerance: 20%; Voltage: 50V; Price: 0.2673; Device Package: Radial, Can, 10mm
footprint CAP AL TH D10 L5 H22
pins: 1, 2

## UVP1H221MHD
designator C?, comment 220uF  (value not drawn)
CAP ALUM 220UF 20% 50V RADIAL; Part Number: UVP1H221MHD; Manufacturer: Nichicon; TemperatureRange: -40C ~ 85C; Type: Bi-Polar; Ripple Current: 480mA; Value: 220uF; PartId: 23877; Supplier 1: Digi-Key; Supplier Part Number 1: 493-6086-ND; ComponentLink1Description: Datasheet; ComponentLink1URL: http://nichicon-us.com/english/products/pdfs/e-uvp.pdf; ComponentLink2Description: Digi-Key Listing; ComponentLink2URL: https://www.digikey.com/product-detail/en/nichicon/UVP1H221MHD/493-6086-ND/2539575; Tolerance: 20%; Voltage: 50V; Price: 0.82; Device Package: Radial, Can, 12.5mm
footprint CAP AL TH D12.5 L5 H27
pins: 1, 2

## UVP1H221MHD1TO
designator C?, comment 220uF  (value not drawn)
CAP ALUM 220UF 20% 50V RADIAL; Part Number: UVP1H221MHD1TO; Manufacturer: Nichicon; TemperatureRange: -40C ~ 85C; Type: Bi-Polar; Ripple Current: 480mA; Value: 220uF; PartId: 23911; Supplier 1: Digi-Key; Supplier Part Number 1: 493-12701-1-ND; ComponentLink1Description: Datasheet; ComponentLink1URL: http://nichicon-us.com/english/products/pdfs/e-uvp.pdf; ComponentLink2Description: Digi-Key Listing; ComponentLink2URL: https://www.digikey.com/product-detail/en/nichicon/UVP1H221MHD1TO/493-12701-1-ND/4328318; Tolerance: 20%; Voltage: 50V; Price: 0.92; Device Package: Radial, Can, 12.5mm
footprint CAP AL TH D12.5 L5 H27
pins: 1, 2

## UVP1H331MHD
designator C?, comment 330uF  (value not drawn)
CAP ALUM 330UF 20% 50V RADIAL; Part Number: UVP1H331MHD; Manufacturer: Nichicon; TemperatureRange: -40C ~ 85C; Type: Bi-Polar; Ripple Current: 650mA; Value: 330uF; PartId: 26854; Supplier 1: Digi-Key; Supplier Part Number 1: 493-6088-ND; ComponentLink1Description: Datasheet; ComponentLink1URL: http://nichicon-us.com/english/products/pdfs/e-uvp.pdf; ComponentLink2Description: Digi-Key Listing; ComponentLink2URL: https://www.digikey.com/product-detail/en/nichicon/UVP1H331MHD/493-6088-ND/2539577; Tolerance: 20%; Voltage: 50V; Price: 1.1; Device Package: Radial, Can, 16mm
footprint CAP AL TH D16 L7.5 H27
pins: 1, 2

## UVP1H331MHD1TN
designator C?, comment 330uF  (value not drawn)
CAP ALUM 330UF 20% 50V RADIAL; Part Number: UVP1H331MHD1TN; Manufacturer: Nichicon; TemperatureRange: -40C ~ 85C; Type: Bi-Polar; Ripple Current: 650mA; Value: 330uF; PartId: 26762; Supplier 1: Digi-Key; Supplier Part Number 1: 493-12704-3-ND; ComponentLink1Description: Datasheet; ComponentLink1URL: http://nichicon-us.com/english/products/pdfs/e-uvp.pdf; ComponentLink2Description: Digi-Key Listing; ComponentLink2URL: https://www.digikey.com/product-detail/en/nichicon/UVP1H331MHD1TN/493-12704-3-ND/4328905; Tolerance: 20%; Voltage: 50V; Price: 0.5804; Device Package: Radial, Can, 16mm
footprint CAP AL TH D16 L7.5 H27
pins: 1, 2

## UVP1H470MPD1TD
designator C?, comment 47uF  (value not drawn)
CAP ALUM 47UF 20% 50V RADIAL; Part Number: UVP1H470MPD1TD; Manufacturer: Nichicon; TemperatureRange: -40C ~ 85C; Type: Bi-Polar; Ripple Current: 150mA; Value: 47uF; PartId: 24616; Supplier 1: Digi-Key; Supplier Part Number 1: 493-12706-3-ND; ComponentLink1Description: Datasheet; ComponentLink1URL: http://nichicon-us.com/english/products/pdfs/e-uvp.pdf; ComponentLink2Description: Digi-Key Listing; ComponentLink2URL: https://www.digikey.com/product-detail/en/nichicon/UVP1H470MPD1TD/493-12706-3-ND/4328907; Tolerance: 20%; Voltage: 50V; Price: 0.1976; Device Package: Radial, Can, 10mm
footprint CAP AL TH D10 L5 H14.5
pins: 1, 2

## UVP1H471MHD
designator C?, comment 470uF  (value not drawn)
CAP ALUM 470UF 20% 50V RADIAL; Part Number: UVP1H471MHD; Manufacturer: Nichicon; TemperatureRange: -40C ~ 85C; Type: Bi-Polar; Ripple Current: 835mA; Value: 470uF; PartId: 26995; Supplier 1: Digi-Key; Supplier Part Number 1: 493-12446-ND; ComponentLink1Description: Datasheet; ComponentLink1URL: http://nichicon-us.com/english/products/pdfs/e-uvp.pdf; ComponentLink2Description: Digi-Key Listing; ComponentLink2URL: https://www.digikey.com/product-detail/en/nichicon/UVP1H471MHD/493-12446-ND/2539580; Tolerance: 20%; Voltage: 50V; Price: 1.31; Device Package: Radial, Can, 16mm
footprint CAP AL TH D16 L7.5 H33.5
pins: 1, 2

## UVP1J101MHD1TO
designator C?, comment 100uF  (value not drawn)
CAP ALUM 100UF 20% 63V RADIAL; Part Number: UVP1J101MHD1TO; Manufacturer: Nichicon; TemperatureRange: -40C ~ 85C; Type: Bi-Polar; Ripple Current: 320mA; Value: 100uF; PartId: 23180; Supplier 1: Digi-Key; Supplier Part Number 1: 493-12710-3-ND; ComponentLink1Description: Datasheet; ComponentLink1URL: http://nichicon-us.com/english/products/pdfs/e-uvp.pdf; ComponentLink2Description: Digi-Key Listing; ComponentLink2URL: https://www.digikey.com/product-detail/en/nichicon/UVP1J101MHD1TO/493-12710-3-ND/4328911; Tolerance: 20%; Voltage: 63V; Price: 0.379; Device Package: Radial, Can, 12.5mm
footprint CAP AL TH D12.5 L5 H22
pins: 1, 2

## UVP1J221MHD1TN
designator C?, comment 220uF  (value not drawn)
CAP ALUM 220UF 20% 63V RADIAL; Part Number: UVP1J221MHD1TN; Manufacturer: Nichicon; TemperatureRange: -40C ~ 85C; Type: Bi-Polar; Ripple Current: 575mA; Value: 220uF; PartId: 26765; Supplier 1: Digi-Key; Supplier Part Number 1: 493-12712-3-ND; ComponentLink1Description: Datasheet; ComponentLink1URL: http://nichicon-us.com/english/products/pdfs/e-uvp.pdf; ComponentLink2Description: Digi-Key Listing; ComponentLink2URL: https://www.digikey.com/product-detail/en/nichicon/UVP1J221MHD1TN/493-12712-3-ND/4328913; Tolerance: 20%; Voltage: 63V; Price: 0.5914; Device Package: Radial, Can, 16mm
footprint CAP AL TH D16 L7.5 H27
pins: 1, 2

## UVP1J330MPD1TD
designator C?, comment 33uF  (value not drawn)
CAP ALUM 33UF 20% 63V RADIAL; Part Number: UVP1J330MPD1TD; Manufacturer: Nichicon; TemperatureRange: -40C ~ 85C; Type: Bi-Polar; Ripple Current: 135mA; Value: 33uF; PartId: 24613; Supplier 1: Digi-Key; Supplier Part Number 1: 493-12713-3-ND; ComponentLink1Description: Datasheet; ComponentLink1URL: http://nichicon-us.com/english/products/pdfs/e-uvp.pdf; ComponentLink2Description: Digi-Key Listing; ComponentLink2URL: https://www.digikey.com/product-detail/en/nichicon/UVP1J330MPD1TD/493-12713-3-ND/4328914; Tolerance: 20%; Voltage: 63V; Price: 0.1976; Device Package: Radial, Can, 10mm
footprint CAP AL TH D10 L5 H14.5
pins: 1, 2

## UVP1J331MHD
designator C?, comment 330uF  (value not drawn)
CAP ALUM 330UF 20% 63V RADIAL; Part Number: UVP1J331MHD; Manufacturer: Nichicon; TemperatureRange: -40C ~ 85C; Type: Bi-Polar; Ripple Current: 655mA; Value: 330uF; PartId: 26992; Supplier 1: Digi-Key; Supplier Part Number 1: 493-12447-ND; ComponentLink1Description: Datasheet; ComponentLink1URL: http://nichicon-us.com/english/products/pdfs/e-uvp.pdf; ComponentLink2Description: Digi-Key Listing; ComponentLink2URL: https://www.digikey.com/product-detail/en/nichicon/UVP1J331MHD/493-12447-ND/2539588; Tolerance: 20%; Voltage: 63V; Price: 1.29; Device Package: Radial, Can, 16mm
footprint CAP AL TH D16 L7.5 H33.5
pins: 1, 2

## UVP1J470MPD1TD
designator C?, comment 47uF  (value not drawn)
CAP ALUM 47UF 20% 63V RADIAL; Part Number: UVP1J470MPD1TD; Manufacturer: Nichicon; TemperatureRange: -40C ~ 85C; Type: Bi-Polar; Ripple Current: 180mA; Value: 47uF; PartId: 25071; Supplier 1: Digi-Key; Supplier Part Number 1: 493-12715-3-ND; ComponentLink1Description: Datasheet; ComponentLink1URL: http://nichicon-us.com/english/products/pdfs/e-uvp.pdf; ComponentLink2Description: Digi-Key Listing; ComponentLink2URL: https://www.digikey.com/product-detail/en/nichicon/UVP1J470MPD1TD/493-12715-3-ND/4328916; Tolerance: 20%; Voltage: 63V; Price: 0.232; Device Package: Radial, Can, 10mm
footprint CAP AL TH D10 L5 H17.5
pins: 1, 2

## UVP1V101MPD
designator C?, comment 100uF  (value not drawn)
CAP ALUM 100UF 20% 35V RADIAL; Part Number: UVP1V101MPD; Manufacturer: Nichicon; TemperatureRange: -40C ~ 85C; Type: Bi-Polar; Ripple Current: 230mA; Value: 100uF; PartId: 25245; Supplier 1: Digi-Key; Supplier Part Number 1: 493-6092-ND; ComponentLink1Description: Datasheet; ComponentLink1URL: http://nichicon-us.com/english/products/pdfs/e-uvp.pdf; ComponentLink2Description: Digi-Key Listing; ComponentLink2URL: https://www.digikey.com/product-detail/en/nichicon/UVP1V101MPD/493-6092-ND/2539593; Tolerance: 20%; Voltage: 35V; Price: 0.57; Device Package: Radial, Can, 10mm
footprint CAP AL TH D10 L5 H17.5
pins: 1, 2

## UVP1V102MHD
designator C?, comment 1000uF  (value not drawn)
CAP ALUM 1000UF 20% 35V RADIAL; Part Number: UVP1V102MHD; Manufacturer: Nichicon; TemperatureRange: -40C ~ 85C; Type: Bi-Polar; Ripple Current: 1.14A; Value: 1000uF; PartId: 27028; Supplier 1: Digi-Key; Supplier Part Number 1: 493-12449-ND; ComponentLink1Description: Datasheet; ComponentLink1URL: http://nichicon-us.com/english/products/pdfs/e-uvp.pdf; ComponentLink2Description: Digi-Key Listing; ComponentLink2URL: https://www.digikey.com/product-detail/en/nichicon/UVP1V102MHD/493-12449-ND/2539594; Tolerance: 20%; Voltage: 35V; Price: 1.49; Device Package: Radial, Can, 16mm
footprint CAP AL TH D16 L7.5 H33.5
pins: 1, 2

## UVP1V221MHD1TO
designator C?, comment 220uF  (value not drawn)
CAP ALUM 220UF 20% 35V RADIAL; Part Number: UVP1V221MHD1TO; Manufacturer: Nichicon; TemperatureRange: -40C ~ 85C; Type: Bi-Polar; Ripple Current: 410mA; Value: 220uF; PartId: 23167; Supplier 1: Digi-Key; Supplier Part Number 1: 493-12720-3-ND; ComponentLink1Description: Datasheet; ComponentLink1URL: http://nichicon-us.com/english/products/pdfs/e-uvp.pdf; ComponentLink2Description: Digi-Key Listing; ComponentLink2URL: https://www.digikey.com/product-detail/en/nichicon/UVP1V221MHD1TO/493-12720-3-ND/4328921; Tolerance: 20%; Voltage: 35V; Price: 0.3366; Device Package: Radial, Can, 12.5mm
footprint CAP AL TH D12.5 L5 H22
pins: 1, 2

## UVP1V331MHD1TO
designator C?, comment 330uF  (value not drawn)
CAP ALUM 330UF 20% 35V RADIAL; Part Number: UVP1V331MHD1TO; Manufacturer: Nichicon; TemperatureRange: -40C ~ 85C; Type: Bi-Polar; Ripple Current: 505mA; Value: 330uF; PartId: 23179; Supplier 1: Digi-Key; Supplier Part Number 1: 493-12722-3-ND; ComponentLink1Description: Datasheet; ComponentLink1URL: http://nichicon-us.com/english/products/pdfs/e-uvp.pdf; ComponentLink2Description: Digi-Key Listing; ComponentLink2URL: https://www.digikey.com/product-detail/en/nichicon/UVP1V331MHD1TO/493-12722-3-ND/4328923; Tolerance: 20%; Voltage: 35V; Price: 0.379; Device Package: Radial, Can, 12.5mm
footprint CAP AL TH D12.5 L5 H22
pins: 1, 2

## UVP1V471MHD1TO
designator C?, comment 470uF  (value not drawn)
CAP ALUM 470UF 20% 35V RADIAL; Part Number: UVP1V471MHD1TO; Manufacturer: Nichicon; TemperatureRange: -40C ~ 85C; Type: Bi-Polar; Ripple Current: 655mA; Value: 470uF; PartId: 23944; Supplier 1: Digi-Key; Supplier Part Number 1: 493-12724-1-ND; ComponentLink1Description: Datasheet; ComponentLink1URL: http://nichicon-us.com/english/products/pdfs/e-uvp.pdf; ComponentLink2Description: Digi-Key Listing; ComponentLink2URL: https://www.digikey.com/product-detail/en/nichicon/UVP1V471MHD1TO/493-12724-1-ND/4328341; Tolerance: 20%; Voltage: 35V; Price: 0.97; Device Package: Radial, Can, 12.5mm
footprint CAP AL TH D12.5 L5 H27
pins: 1, 2

## UVP2A220MPD1TD
designator C?, comment 22uF  (value not drawn)
CAP ALUM 22UF 20% 100V RADIAL; Part Number: UVP2A220MPD1TD; Manufacturer: Nichicon; TemperatureRange: -40C ~ 85C; Type: Bi-Polar; Ripple Current: 135mA; Value: 22uF; PartId: 25077; Supplier 1: Digi-Key; Supplier Part Number 1: 493-12729-3-ND; ComponentLink1Description: Datasheet; ComponentLink1URL: http://nichicon-us.com/english/products/pdfs/e-uvp.pdf; ComponentLink2Description: Digi-Key Listing; ComponentLink2URL: https://www.digikey.com/product-detail/en/nichicon/UVP2A220MPD1TD/493-12729-3-ND/4328930; Tolerance: 20%; Voltage: 100V; Price: 0.232; Device Package: Radial, Can, 10mm
footprint CAP AL TH D10 L5 H17.5
pins: 1, 2

## UVP2A330MHD1TO
designator C?, comment 33uF  (value not drawn)
CAP ALUM 33UF 20% 100V RADIAL; Part Number: UVP2A330MHD1TO; Manufacturer: Nichicon; TemperatureRange: -40C ~ 85C; Type: Bi-Polar; Ripple Current: 220mA; Value: 33uF; PartId: 23166; Supplier 1: Digi-Key; Supplier Part Number 1: 493-12731-3-ND; ComponentLink1Description: Datasheet; ComponentLink1URL: http://nichicon-us.com/english/products/pdfs/e-uvp.pdf; ComponentLink2Description: Digi-Key Listing; ComponentLink2URL: https://www.digikey.com/product-detail/en/nichicon/UVP2A330MHD1TO/493-12731-3-ND/4328932; Tolerance: 20%; Voltage: 100V; Price: 0.3366; Device Package: Radial, Can, 12.5mm
footprint CAP AL TH D12.5 L5 H22
pins: 1, 2

## UVP2A470MHD1TO
designator C?, comment 47uF  (value not drawn)
CAP ALUM 47UF 20% 100V RADIAL; Part Number: UVP2A470MHD1TO; Manufacturer: Nichicon; TemperatureRange: -40C ~ 85C; Type: Bi-Polar; Ripple Current: 240mA; Value: 47uF; PartId: 23181; Supplier 1: Digi-Key; Supplier Part Number 1: 493-12733-3-ND; ComponentLink1Description: Datasheet; ComponentLink1URL: http://nichicon-us.com/english/products/pdfs/e-uvp.pdf; ComponentLink2Description: Digi-Key Listing; ComponentLink2URL: https://www.digikey.com/product-detail/en/nichicon/UVP2A470MHD1TO/493-12733-3-ND/4328934; Tolerance: 20%; Voltage: 100V; Price: 0.379; Device Package: Radial, Can, 12.5mm
footprint CAP AL TH D12.5 L5 H22
pins: 1, 2

## UVR0J103MHD
designator C?, comment 10000uF  (value not drawn)
CAP ALUM 10000UF 20% 6.3V RADIAL; Part Number: UVR0J103MHD; Manufacturer: Nichicon; TemperatureRange: -40C ~ 85C; Type: Polar; Ripple Current: 2.35A; Value: 10000uF; PartId: 26842; Supplier 1: Digi-Key; Supplier Part Number 1: 493-1012-ND; ComponentLink1Description: Datasheet; ComponentLink1URL: http://nichicon-us.com/english/products/pdfs/e-uvr.pdf; ComponentLink2Description: Digi-Key Listing; ComponentLink2URL: https://www.digikey.com/product-detail/en/nichicon/UVR0J103MHD/493-1012-ND/588753; Tolerance: 20%; Voltage: 6.3V; Price: 1.02; Device Package: Radial, Can, 16mm
footprint CAP AL TH D16 L7.5 H27
pins: 1, 2

## UVR0J153MHD
designator C?, comment 15000uF  (value not drawn)
CAP ALUM 15000UF 20% 6.3V RADIAL; Part Number: UVR0J153MHD; Manufacturer: Nichicon; TemperatureRange: -40C ~ 85C; Type: Polar; Ripple Current: 2.85A; Value: 15000uF; PartId: 27323; Supplier 1: Digi-Key; Supplier Part Number 1: 493-1013-ND; ComponentLink1Description: Datasheet; ComponentLink1URL: http://nichicon-us.com/english/products/pdfs/e-uvr.pdf; ComponentLink2Description: Digi-Key Listing; ComponentLink2URL: https://www.digikey.com/product-detail/en/nichicon/UVR0J153MHD/493-1013-ND/588754; Tolerance: 20%; Voltage: 6.3V; Price: 1.52; Device Package: Radial, Can, 16mm
footprint CAP AL TH D16 L7.5 H37
pins: 1, 2

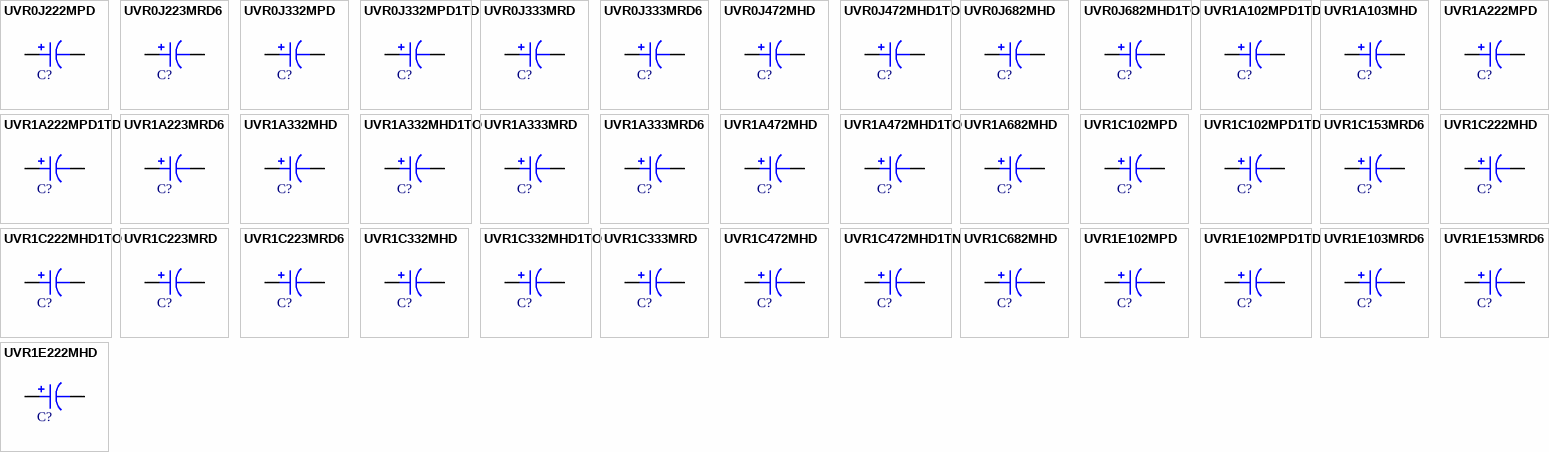
[diagram p105: symbols UVR0J222MPD to UVR1E222MHD]

## UVR0J222MPD
designator C?, comment 2200uF  (value not drawn)
CAP ALUM 2200UF 20% 6.3V RADIAL; Part Number: UVR0J222MPD; Manufacturer: Nichicon; TemperatureRange: -40C ~ 85C; Type: Polar; Ripple Current: 1A; Value: 2200uF; PartId: 25841; Supplier 1: Digi-Key; Supplier Part Number 1: 493-1008-ND; ComponentLink1Description: Datasheet; ComponentLink1URL: http://nichicon-us.com/english/products/pdfs/e-uvr.pdf; ComponentLink2Description: Digi-Key Listing; ComponentLink2URL: https://www.digikey.com/product-detail/en/nichicon/UVR0J222MPD/493-1008-ND/588749; Tolerance: 20%; Voltage: 6.3V; Price: 0.49; Device Package: Radial, Can, 10mm
footprint CAP AL TH D10 L5 H22
pins: 1, 2